# Altium schematic symbol library NB679GD-P.SchLib: 1 symbol
Pins are listed as number, name and electrical type; pins without a type are passive.

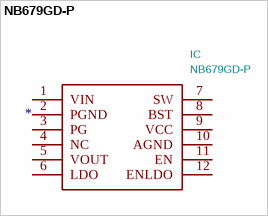
[diagram p0: symbol NB679GD-P]

## NB679GD-P
designator IC  value NB679GD-P
Switching Voltage Regulators 26V Fixed 5V-8A Sync Buck Converter; Manufacturer_Name: Monolithic Power Systems (MPS); Footprint: MP8759GDZ; Supplier: https://www.monolithicpower.com/pub/media/document/NB679_r1.03.pdf; Description_: Switching Voltage Regulators 26V Fixed 5V-8A Sync Buck Converter; Height: 1; Manufacturer_Part_Number: NB679GD-P; Mouser Part Number: 946-NB679GD-P; Mouser Price/Stock: https://www.mouser.com/Search/Refine.aspx?Keyword=946-NB679GD-P
footprint MP8759GDZ
pins: 1 VIN, 2 PGND, 3 PG, 4 NC, 5 VOUT, 6 LDO, 7 SW, 8 BST, 9 VCC, 10 AGND, 11 EN, 12 ENLDO